# Altium footprint library QFP.PcbLib: 7 footprints
Each footprint in its own frame and in the unit in brackets; x right, y up, seen from the top. Pads: shape width x height; smd on the part's side, far side on the other; paste and mask are expansions set on the pad; w line width, h text height; cw(c..) or ccw(c..) is an arc to the next point about the centre after c.
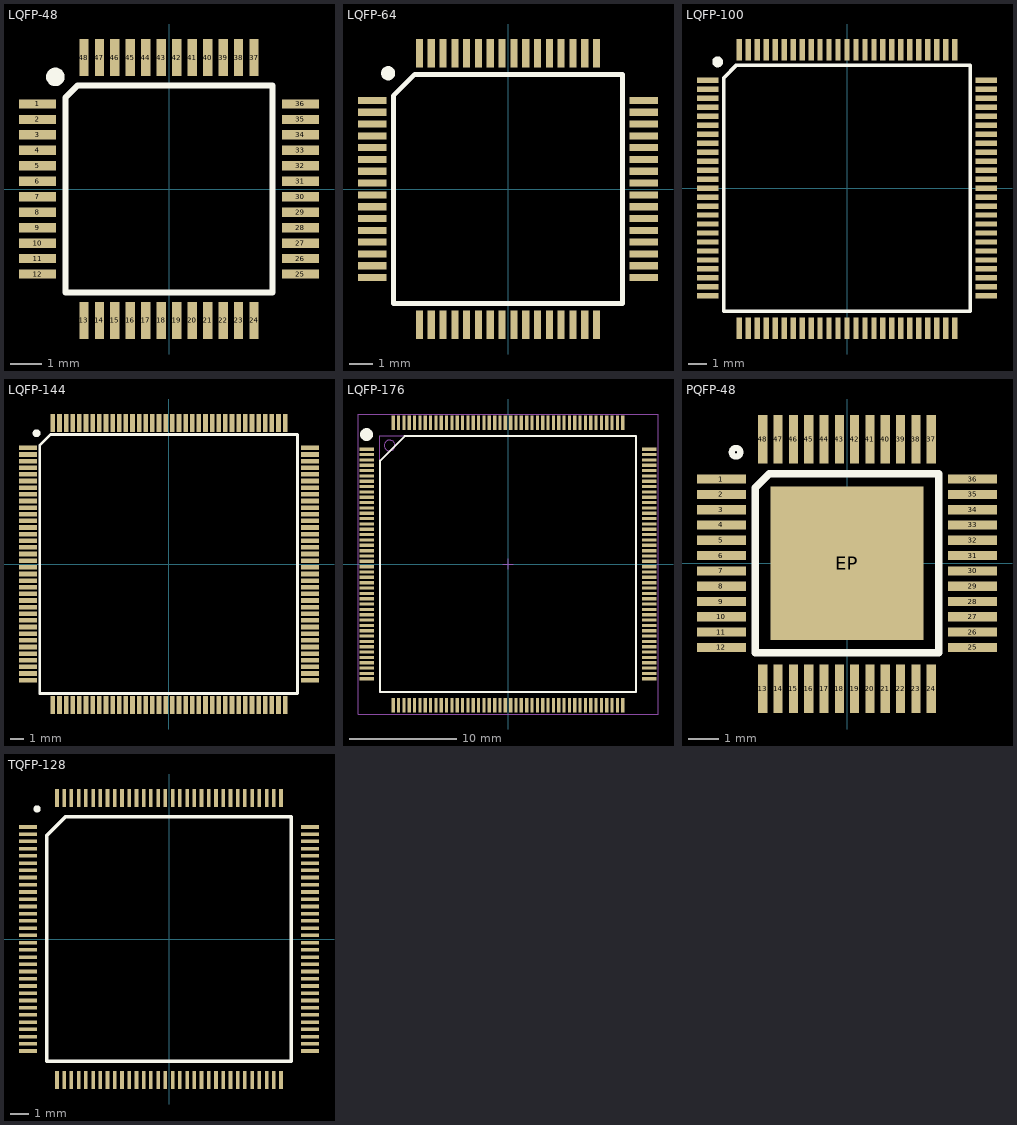
[diagram p0: the footprints below, top view; thin cyan lines are the x and y axes]

## LQFP-48 [mm]
pads (48):
  rect 1.2x0.3 smd: 1(-4.25,2.75) 2(-4.25,2.25) 3(-4.25,1.75) 4(-4.25,1.25) 5(-4.25,0.75) 6(-4.25,0.25) 7(-4.25,-0.25) 8(-4.25,-0.75) 9(-4.25,-1.25) 10(-4.25,-1.75) 11(-4.25,-2.25) 12(-4.25,-2.75) 25(4.25,-2.75) 26(4.25,-2.25) 27(4.25,-1.75) 28(4.25,-1.25) 29(4.25,-0.75) 30(4.25,-0.25) 31(4.25,0.25) 32(4.25,0.75) 33(4.25,1.25) 34(4.25,1.75) 35(4.25,2.25) 36(4.25,2.75)
  rect 0.3x1.2 smd: 13(-2.75,-4.25) 14(-2.25,-4.25) 15(-1.75,-4.25) 16(-1.25,-4.25) 17(-0.75,-4.25) 18(-0.25,-4.25) 19(0.25,-4.25) 20(0.75,-4.25) 21(1.25,-4.25) 22(1.75,-4.25) 23(2.25,-4.25) 24(2.75,-4.25) 37(2.75,4.25) 38(2.25,4.25) 39(1.75,4.25) 40(1.25,4.25) 41(0.75,4.25) 42(0.25,4.25) 43(-0.25,4.25) 44(-0.75,4.25) 45(-1.25,4.25) 46(-1.75,4.25) 47(-2.25,4.25) 48(-2.75,4.25)
Top Overlay:
  circle w0.3: c-3.675,3.625 r0.15
  lines w0.2: -3.35,-3.35 3.35,-3.35 3.35,3.35 -2.95,3.35 -3.35,2.95 -3.35,-3.35
3D body "User Library-LQFP48_Grid_0_5.STEP": height 1.6, standoff 0, extent -4.499,-4.5 4.501,4.5

## LQFP-64 [mm]
pads (64):
  rect 1.2x0.3 smd: 1(-5.75,3.75) 2(-5.75,3.25) 3(-5.75,2.75) 4(-5.75,2.25) 5(-5.75,1.75) 6(-5.75,1.25) 7(-5.75,0.75) 8(-5.75,0.25) 9(-5.75,-0.25) 10(-5.75,-0.75) 11(-5.75,-1.25) 12(-5.75,-1.75) 13(-5.75,-2.25) 14(-5.75,-2.75) 15(-5.75,-3.25) 16(-5.75,-3.75) 33(5.75,-3.75) 34(5.75,-3.25) 35(5.75,-2.75) 36(5.75,-2.25) 37(5.75,-1.75) 38(5.75,-1.25) 39(5.75,-0.75) 40(5.75,-0.25) 41(5.75,0.25) 42(5.75,0.75) 43(5.75,1.25) 44(5.75,1.75) 45(5.75,2.25) 46(5.75,2.75) 47(5.75,3.25) 48(5.75,3.75)
  rect 0.3x1.2 smd: 17(-3.75,-5.75) 18(-3.25,-5.75) 19(-2.75,-5.75) 20(-2.25,-5.75) 21(-1.75,-5.75) 22(-1.25,-5.75) 23(-0.75,-5.75) 24(-0.25,-5.75) 25(0.25,-5.75) 26(0.75,-5.75) 27(1.25,-5.75) 28(1.75,-5.75) 29(2.25,-5.75) 30(2.75,-5.75) 31(3.25,-5.75) 32(3.75,-5.75) 49(3.75,5.75) 50(3.25,5.75) 51(2.75,5.75) 52(2.25,5.75) 53(1.75,5.75) 54(1.25,5.75) 55(0.75,5.75) 56(0.25,5.75) 57(-0.25,5.75) 58(-0.75,5.75) 59(-1.25,5.75) 60(-1.75,5.75) 61(-2.25,5.75) 62(-2.75,5.75) 63(-3.25,5.75) 64(-3.75,5.75)
Top Overlay:
  circle w0.3: c-5.075,4.9 r0.15
  lines w0.2: -4.85,-4.85 -4.85,-4.85 ; -4.85,-4.85 -4.85,-4.85 ; -4.85,-4.85 4.85,-4.85 4.85,4.85 -3.95,4.85 -4.85,3.95 -4.85,-4.85
3D body "User Library-LQFP64_Grid_0_5.STEP": height 1.6, standoff 0, extent -6,-6 6,6

## LQFP-100 [mm]
pads (100):
  rect 1.2x0.3 smd: 1(-7.75,6) 2(-7.75,5.5) 3(-7.75,5) 4(-7.75,4.5) 5(-7.75,4) 6(-7.75,3.5) 7(-7.75,3) 8(-7.75,2.5) 9(-7.75,2) 10(-7.75,1.5) 11(-7.75,1) 12(-7.75,0.5) 13(-7.75,0) 14(-7.75,-0.5) 15(-7.75,-1) 16(-7.75,-1.5) 17(-7.75,-2) 18(-7.75,-2.5) 19(-7.75,-3) 20(-7.75,-3.5) 21(-7.75,-4) 22(-7.75,-4.5) 23(-7.75,-5) 24(-7.75,-5.5) 25(-7.75,-6) 51(7.75,-6) 52(7.75,-5.5) 53(7.75,-5) 54(7.75,-4.5) 55(7.75,-4) 56(7.75,-3.5) 57(7.75,-3) 58(7.75,-2.5) 59(7.75,-2) 60(7.75,-1.5) 61(7.75,-1) 62(7.75,-0.5) 63(7.75,0) 64(7.75,0.5) 65(7.75,1) 66(7.75,1.5) 67(7.75,2) 68(7.75,2.5) 69(7.75,3) 70(7.75,3.5) 71(7.75,4) 72(7.75,4.5) 73(7.75,5) 74(7.75,5.5) 75(7.75,6)
  rect 0.3x1.2 smd: 26(-6,-7.8) 27(-5.5,-7.8) 28(-5,-7.8) 29(-4.5,-7.8) 30(-4,-7.8) 31(-3.5,-7.8) 32(-3,-7.8) 33(-2.5,-7.8) 34(-2,-7.8) 35(-1.5,-7.8) 36(-1,-7.8) 37(-0.5,-7.8) 38(0,-7.8) 39(0.5,-7.8) 40(1,-7.8) 41(1.5,-7.8) 42(2,-7.8) 43(2.5,-7.8) 44(3,-7.8) 45(3.5,-7.8) 46(4,-7.8) 47(4.5,-7.8) 48(5,-7.8) 49(5.5,-7.8) 50(6,-7.8) 76(6,7.7) 77(5.5,7.7) 78(5,7.7) 79(4.5,7.7) 80(4,7.7) 81(3.5,7.7) 82(3,7.7) 83(2.5,7.7) 84(2,7.7) 85(1.5,7.7) 86(1,7.7) 87(0.5,7.7) 88(0,7.7) 89(-0.5,7.7) 90(-1,7.7) 91(-1.5,7.7) 92(-2,7.7) 93(-2.5,7.7) 94(-3,7.7) 95(-3.5,7.7) 96(-4,7.7) 97(-4.5,7.7) 98(-5,7.7) 99(-5.5,7.7) 100(-6,7.7)
Top Overlay:
  circle w0.3: c-7.2,7.025 r0.15
  lines w0.2: -6.85,-6.85 6.85,-6.85 6.85,6.85 -6.15,6.85 -6.85,6.15 -6.85,-6.85
3D body "User Library-LQFP100_Grid_0_5.STEP": height 1.6, standoff 0, extent -8,-8 8,8

## LQFP-144 [mm]
pads (144):
  rect 1.35x0.35 smd: 1(-10.6,8.75) 2(-10.6,8.25) 3(-10.6,7.75) 4(-10.6,7.25) 5(-10.6,6.75) 6(-10.6,6.25) 7(-10.6,5.75) 8(-10.6,5.25) 9(-10.6,4.75) 10(-10.6,4.25) 11(-10.6,3.75) 12(-10.6,3.25) 13(-10.6,2.75) 14(-10.6,2.25) 15(-10.6,1.75) 16(-10.6,1.25) 17(-10.6,0.75) 18(-10.6,0.25) 19(-10.6,-0.25) 20(-10.6,-0.75) 21(-10.6,-1.25) 22(-10.6,-1.75) 23(-10.6,-2.25) 24(-10.6,-2.75) 25(-10.6,-3.25) 26(-10.6,-3.75) 27(-10.6,-4.25) 28(-10.6,-4.75) 29(-10.6,-5.25) 30(-10.6,-5.75) 31(-10.6,-6.25) 32(-10.6,-6.75) 33(-10.6,-7.25) 34(-10.6,-7.75) 35(-10.6,-8.25) 36(-10.6,-8.75) 73(10.65,-8.75) 74(10.65,-8.25) 75(10.65,-7.75) 76(10.65,-7.25) 77(10.65,-6.75) 78(10.65,-6.25) 79(10.65,-5.75) 80(10.65,-5.25) 81(10.65,-4.75) 82(10.65,-4.25) 83(10.65,-3.75) 84(10.65,-3.25) 85(10.65,-2.75) 86(10.65,-2.25) 87(10.65,-1.75) 88(10.65,-1.25) 89(10.65,-0.75) 90(10.65,-0.25) 91(10.65,0.25) 92(10.65,0.75) 93(10.65,1.25) 94(10.65,1.75) 95(10.65,2.25) 96(10.65,2.75) 97(10.65,3.25) 98(10.65,3.75) 99(10.65,4.25) 100(10.65,4.75) 101(10.65,5.25) 102(10.65,5.75) 103(10.65,6.25) 104(10.65,6.75) 105(10.65,7.25) 106(10.65,7.75) 107(10.65,8.25) 108(10.65,8.75)
  rect 0.35x1.35 smd: 37(-8.725,-10.625) 38(-8.225,-10.625) 39(-7.725,-10.625) 40(-7.225,-10.625) 41(-6.725,-10.625) 42(-6.225,-10.625) 43(-5.725,-10.625) 44(-5.225,-10.625) 45(-4.725,-10.625) 46(-4.225,-10.625) 47(-3.725,-10.625) 48(-3.225,-10.625) 49(-2.725,-10.625) 50(-2.225,-10.625) 51(-1.725,-10.625) 52(-1.225,-10.625) 53(-0.725,-10.625) 54(-0.225,-10.625) 55(0.275,-10.625) 56(0.775,-10.625) 57(1.275,-10.625) 58(1.775,-10.625) 59(2.275,-10.625) 60(2.775,-10.625) 61(3.275,-10.625) 62(3.775,-10.625) 63(4.275,-10.625) 64(4.775,-10.625) 65(5.275,-10.625) 66(5.775,-10.625) 67(6.275,-10.625) 68(6.775,-10.625) 69(7.275,-10.625) 70(7.775,-10.625) 71(8.275,-10.625) 72(8.775,-10.625) 109(8.775,10.625) 110(8.275,10.625) 111(7.775,10.625) 112(7.275,10.625) 113(6.775,10.625) 114(6.275,10.625) 115(5.775,10.625) 116(5.275,10.625) 117(4.775,10.625) 118(4.275,10.625) 119(3.775,10.625) 120(3.275,10.625) 121(2.775,10.625) 122(2.275,10.625) 123(1.775,10.625) 124(1.275,10.625) 125(0.775,10.625) 126(0.275,10.625) 127(-0.225,10.625) 128(-0.725,10.625) 129(-1.225,10.625) 130(-1.725,10.625) 131(-2.225,10.625) 132(-2.725,10.625) 133(-3.225,10.625) 134(-3.725,10.625) 135(-4.225,10.625) 136(-4.725,10.625) 137(-5.225,10.625) 138(-5.725,10.625) 139(-6.225,10.625) 140(-6.725,10.625) 141(-7.225,10.625) 142(-7.725,10.625) 143(-8.225,10.625) 144(-8.725,10.625)
Top Overlay:
  circle w0.3: c-9.95,9.85 r0.15
  lines w0.2: -9.7,-9.75 -9.7,8.95 -8.9,9.75 9.7,9.75 9.7,-9.75 -9.7,-9.75
3D body "User Library-LQFP144-3.STEP": height 1.8, standoff -0.09, extent -11.101,-11.101 11.101,11.101

## LQFP-176 [mm] "LQFP, 176-Leads, Body 24,00x24,00mm, Pitch 0,50mm, IPC Medium Density"
height 1.6
pads (176):
  rect 1.35x0.3 smd: 1(-13.225,10.75) 2(-13.225,10.25) 3(-13.225,9.75) 4(-13.225,9.25) 5(-13.225,8.75) 6(-13.225,8.25) 7(-13.225,7.75) 8(-13.225,7.25) 9(-13.225,6.75) 10(-13.225,6.25) 11(-13.225,5.75) 12(-13.225,5.25) 13(-13.225,4.75) 14(-13.225,4.25) 15(-13.225,3.75) 16(-13.225,3.25) 17(-13.225,2.75) 18(-13.225,2.25) 19(-13.225,1.75) 20(-13.225,1.25) 21(-13.225,0.75) 22(-13.225,0.25) 23(-13.225,-0.25) 24(-13.225,-0.75) 25(-13.225,-1.25) 26(-13.225,-1.75) 27(-13.225,-2.25) 28(-13.225,-2.75) 29(-13.225,-3.25) 30(-13.225,-3.75) 31(-13.225,-4.25) 32(-13.225,-4.75) 33(-13.225,-5.25) 34(-13.225,-5.75) 35(-13.225,-6.25) 36(-13.225,-6.75) 37(-13.225,-7.25) 38(-13.225,-7.75) 39(-13.225,-8.25) 40(-13.225,-8.75) 41(-13.225,-9.25) 42(-13.225,-9.75) 43(-13.225,-10.25) 44(-13.225,-10.75) 89(13.225,-10.75) 90(13.225,-10.25) 91(13.225,-9.75) 92(13.225,-9.25) 93(13.225,-8.75) 94(13.225,-8.25) 95(13.225,-7.75) 96(13.225,-7.25) 97(13.225,-6.75) 98(13.225,-6.25) 99(13.225,-5.75) 100(13.225,-5.25) 101(13.225,-4.75) 102(13.225,-4.25) 103(13.225,-3.75) 104(13.225,-3.25) 105(13.225,-2.75) 106(13.225,-2.25) 107(13.225,-1.75) 108(13.225,-1.25) 109(13.225,-0.75) 110(13.225,-0.25) 111(13.225,0.25) 112(13.225,0.75) 113(13.225,1.25) 114(13.225,1.75) 115(13.225,2.25) 116(13.225,2.75) 117(13.225,3.25) 118(13.225,3.75) 119(13.225,4.25) 120(13.225,4.75) 121(13.225,5.25) 122(13.225,5.75) 123(13.225,6.25) 124(13.225,6.75) 125(13.225,7.25) 126(13.225,7.75) 127(13.225,8.25) 128(13.225,8.75) 129(13.225,9.25) 130(13.225,9.75) 131(13.225,10.25) 132(13.225,10.75)
  rect 0.3x1.35 smd: 45(-10.75,-13.225) 46(-10.25,-13.225) 47(-9.75,-13.225) 48(-9.25,-13.225) 49(-8.75,-13.225) 50(-8.25,-13.225) 51(-7.75,-13.225) 52(-7.25,-13.225) 53(-6.75,-13.225) 54(-6.25,-13.225) 55(-5.75,-13.225) 56(-5.25,-13.225) 57(-4.75,-13.225) 58(-4.25,-13.225) 59(-3.75,-13.225) 60(-3.25,-13.225) 61(-2.75,-13.225) 62(-2.25,-13.225) 63(-1.75,-13.225) 64(-1.25,-13.225) 65(-0.75,-13.225) 66(-0.25,-13.225) 67(0.25,-13.225) 68(0.75,-13.225) 69(1.25,-13.225) 70(1.75,-13.225) 71(2.25,-13.225) 72(2.75,-13.225) 73(3.25,-13.225) 74(3.75,-13.225) 75(4.25,-13.225) 76(4.75,-13.225) 77(5.25,-13.225) 78(5.75,-13.225) 79(6.25,-13.225) 80(6.75,-13.225) 81(7.25,-13.225) 82(7.75,-13.225) 83(8.25,-13.225) 84(8.75,-13.225) 85(9.25,-13.225) 86(9.75,-13.225) 87(10.25,-13.225) 88(10.75,-13.225) 133(10.75,13.225) 134(10.25,13.225) 135(9.75,13.225) 136(9.25,13.225) 137(8.75,13.225) 138(8.25,13.225) 139(7.75,13.225) 140(7.25,13.225) 141(6.75,13.225) 142(6.25,13.225) 143(5.75,13.225) 144(5.25,13.225) 145(4.75,13.225) 146(4.25,13.225) 147(3.75,13.225) 148(3.25,13.225) 149(2.75,13.225) 150(2.25,13.225) 151(1.75,13.225) 152(1.25,13.225) 153(0.75,13.225) 154(0.25,13.225) 155(-0.25,13.225) 156(-0.75,13.225) 157(-1.25,13.225) 158(-1.75,13.225) 159(-2.25,13.225) 160(-2.75,13.225) 161(-3.25,13.225) 162(-3.75,13.225) 163(-4.25,13.225) 164(-4.75,13.225) 165(-5.25,13.225) 166(-5.75,13.225) 167(-6.25,13.225) 168(-6.75,13.225) 169(-7.25,13.225) 170(-7.75,13.225) 171(-8.25,13.225) 172(-8.75,13.225) 173(-9.25,13.225) 174(-9.75,13.225) 175(-10.25,13.225) 176(-10.75,13.225)
Top Overlay:
  circle w0.6: c-13.25,12.125 r0.3
  lines w0.2: -11.975,-11.975 -11.975,9.675 -9.675,11.975 11.975,11.975 11.975,-11.975 -11.975,-11.975
Mechanical 2:
  circle w0.1: c-11.1,11.1 r0.5
  lines w0.1: -12,-12 12,-12 12,12 -12,12 -12,-12
Mechanical 3:
  lines w0.05: -14.05,-14.05 14.05,-14.05 14.05,14.05 -14.05,14.05 -14.05,-14.05
  lines w0.1: -0.5,0 0.5,0 ; 0,-0.5 0,0.5
3D body "LQFP-176.step": height 1.6, standoff 0, extent -13.4,-13.4 13.4,13.4

## PQFP-48 [mm]
pads (49):
  rect 1.6x0.3 smd: 1(-4.1,2.75) 2(-4.1,2.25) 3(-4.1,1.75) 4(-4.1,1.25) 5(-4.1,0.75) 6(-4.1,0.25) 7(-4.1,-0.25) 8(-4.1,-0.75) 9(-4.1,-1.25) 10(-4.1,-1.75) 11(-4.1,-2.25) 12(-4.1,-2.75) 25(4.1,-2.75) 26(4.1,-2.25) 27(4.1,-1.75) 28(4.1,-1.25) 29(4.1,-0.75) 30(4.1,-0.25) 31(4.1,0.25) 32(4.1,0.75) 33(4.1,1.25) 34(4.1,1.75) 35(4.1,2.25) 36(4.1,2.75)
  rect 0.3x1.6 smd: 13(-2.75,-4.1) 14(-2.25,-4.1) 15(-1.75,-4.1) 16(-1.25,-4.1) 17(-0.75,-4.1) 18(-0.25,-4.1) 19(0.25,-4.1) 20(0.75,-4.1) 21(1.25,-4.1) 22(1.75,-4.1) 23(2.25,-4.1) 24(2.75,-4.1) 37(2.75,4.05) 38(2.25,4.05) 39(1.75,4.05) 40(1.25,4.05) 41(0.75,4.05) 42(0.25,4.05) 43(-0.25,4.05) 44(-0.75,4.05) 45(-1.25,4.05) 46(-1.75,4.05) 47(-2.25,4.05) 48(-2.75,4.05)
  rect 5x5 smd: EP(0,0)
Top Overlay:
  circle w0.2: c-3.625,3.625 r0.141
  lines w0.254: -3,-2.921 -3,2.461 -2.54,2.921 3,2.921 3,-2.921 -3,-2.921
3D body "User Library-LQFP48_Grid_0_5.STEP": height 1.6, standoff 0, extent -4.499,-4.5 4.501,4.5

## TQFP-128 [mm]
pads (128):
  rect 1x0.2 smd: 1(-7.8,6.2) 2(-7.8,5.8) 3(-7.8,5.4) 4(-7.8,5) 5(-7.8,4.6) 6(-7.8,4.2) 7(-7.8,3.8) 8(-7.8,3.4) 9(-7.8,3) 10(-7.8,2.6) 11(-7.8,2.2) 12(-7.8,1.8) 13(-7.8,1.4) 14(-7.8,1) 15(-7.8,0.6) 16(-7.8,0.2) 17(-7.8,-0.2) 18(-7.8,-0.6) 19(-7.8,-1) 20(-7.8,-1.4) 21(-7.8,-1.8) 22(-7.8,-2.2) 23(-7.8,-2.6) 24(-7.8,-3) 25(-7.8,-3.4) 26(-7.8,-3.8) 27(-7.8,-4.2) 28(-7.8,-4.6) 29(-7.8,-5) 30(-7.8,-5.4) 31(-7.8,-5.8) 32(-7.8,-6.2) 65(7.8,-6.2) 66(7.8,-5.8) 67(7.8,-5.4) 68(7.8,-5) 69(7.8,-4.6) 70(7.8,-4.2) 71(7.8,-3.8) 72(7.8,-3.4) 73(7.8,-3) 74(7.8,-2.6) 75(7.8,-2.2) 76(7.8,-1.8) 77(7.8,-1.4) 78(7.8,-1) 79(7.8,-0.6) 80(7.8,-0.2) 81(7.8,0.2) 82(7.8,0.6) 83(7.8,1) 84(7.8,1.4) 85(7.8,1.8) 86(7.8,2.2) 87(7.8,2.6) 88(7.8,3) 89(7.8,3.4) 90(7.8,3.8) 91(7.8,4.2) 92(7.8,4.6) 93(7.8,5) 94(7.8,5.4) 95(7.8,5.8) 96(7.8,6.2)
  rect 0.2x1 smd: 33(-6.2,-7.8) 34(-5.8,-7.8) 35(-5.4,-7.8) 36(-5,-7.8) 37(-4.6,-7.8) 38(-4.2,-7.8) 39(-3.8,-7.8) 40(-3.4,-7.8) 41(-3,-7.8) 42(-2.6,-7.8) 43(-2.2,-7.8) 44(-1.8,-7.8) 45(-1.4,-7.8) 46(-1,-7.8) 47(-0.6,-7.8) 48(-0.2,-7.8) 49(0.2,-7.8) 50(0.6,-7.8) 51(1,-7.8) 52(1.4,-7.8) 53(1.8,-7.8) 54(2.2,-7.8) 55(2.6,-7.8) 56(3,-7.8) 57(3.4,-7.8) 58(3.8,-7.8) 59(4.2,-7.8) 60(4.6,-7.8) 61(5,-7.8) 62(5.4,-7.8) 63(5.8,-7.8) 64(6.2,-7.8) 97(6.2,7.8) 98(5.8,7.8) 99(5.4,7.8) 100(5,7.8) 101(4.6,7.8) 102(4.2,7.8) 103(3.8,7.8) 104(3.4,7.8) 105(3,7.8) 106(2.6,7.8) 107(2.2,7.8) 108(1.8,7.8) 109(1.4,7.8) 110(1,7.8) 111(0.6,7.8) 112(0.2,7.8) 113(-0.2,7.8) 114(-0.6,7.8) 115(-1,7.8) 116(-1.4,7.8) 117(-1.8,7.8) 118(-2.2,7.8) 119(-2.6,7.8) 120(-3,7.8) 121(-3.4,7.8) 122(-3.8,7.8) 123(-4.2,7.8) 124(-4.6,7.8) 125(-5,7.8) 126(-5.4,7.8) 127(-5.8,7.8) 128(-6.2,7.8)
Top Overlay:
  circle w0.2: c-7.3,7.2 r0.1
  lines w0.2: -6.765,-6.765 -6.765,5.73 -5.73,6.765 6.765,6.765 6.765,-6.765 -6.765,-6.765
3D body "User Library-TQFP128.step": height 1.1, standoff 0, extent -8.009,-8.009 8.009,8.009